# EAGLE library part DAC7821 (library TI)
TI DAC 7821 Package: TSSOP-20 Newark: http://www.newark.com/texas-instruments/dac7821ipw/digital-to-analog-converter-dac/dp/80K1419 Datasheet: http://www.ti.com/lit/ds/symlink/dac7821.pdf
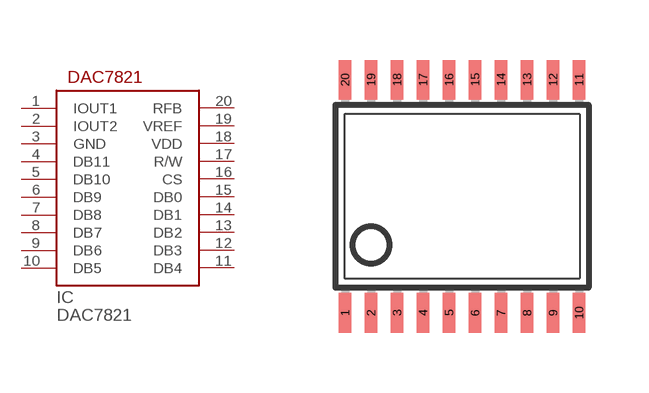
[diagram p20: symbol with the pads of TSSOP20; footprint TSSOP20]

Designator prefix IC

## DAC7821 (PARTNO: DAC7821)  [TSSOP20]
1  IOUT1
2  IOUT2
3  GND
4  DB11
5  DB10
6  DB9
7  DB8
8  DB7
9  DB6
10  DB5
11  DB4
12  DB3
13  DB2
14  DB1
15  DB0
16  CS
17  R/W
18  VDD
19  VREF
20  RFB

## Footprint TSSOP20 (pad centres in mm)
Thin Shrink Small Outline Plastic 20
smd 0.305 x 0.991: 1 -2.925,-2.918; 2 -2.275,-2.918; 3 -1.625,-2.918; 4 -0.975,-2.918; 5 -0.325,-2.918; 6 0.325,-2.918; 7 0.975,-2.918; 8 1.625,-2.918; 9 2.275,-2.918; 10 2.925,-2.918; 11 2.925,2.918; 12 2.275,2.918; 13 1.625,2.918; 14 0.975,2.918; 15 0.325,2.918; 16 -0.325,2.918; 17 -0.975,2.918; 18 -1.625,2.918; 19 -2.275,2.918; 20 -2.925,2.918